# Altium schematic symbol library connectLib.SchLib: 1 symbol
Pins are listed as number, name and electrical type; pins without a type are passive.

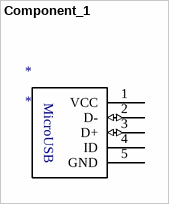
[diagram p0: symbol Component_1]

## Component_1
designator *
pins: 1 VCC (power), 2 D- (io), 3 D+ (io), 4 ID, 5 GND (power)
text: MicroUSB